# Altium footprint library MJ-2506.PcbLib: 1 footprints
Each footprint in its own frame and in the unit in brackets; x right, y up, seen from the top. Pads: shape width x height; smd on the part's side, far side on the other; paste and mask are expansions set on the pad; w line width, h text height; cw(c..) or ccw(c..) is an arc to the next point about the centre after c.
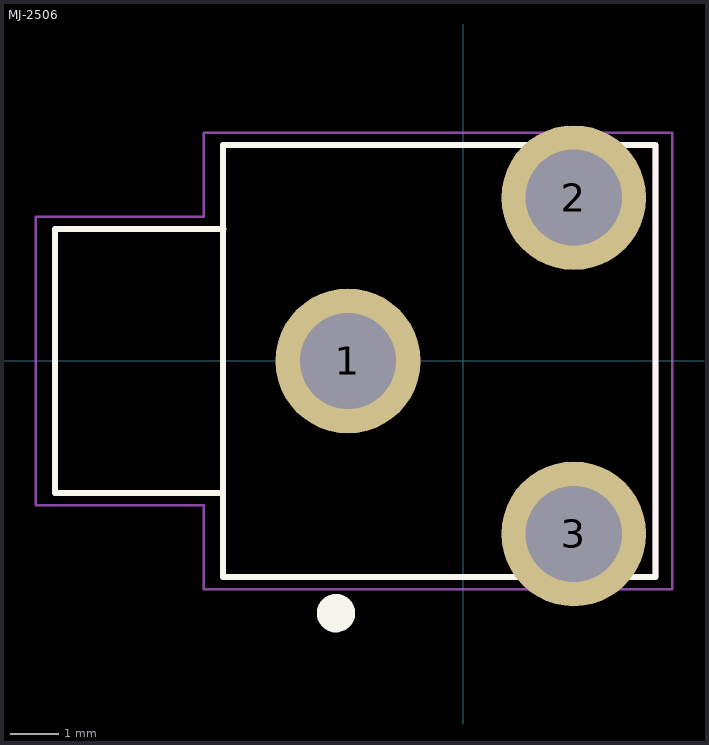
[diagram p0: the footprint, top view; thin cyan lines are the x and y axes]

## MJ-2506 [mm] "2.5mm Audio Jack - Mono"
pads (3):
  round 3.016 hole 2: 1(-2.4,0) 2(2.3,3.4) 3(2.3,-3.6)
Top Overlay:
  circle w0.4: c-2.65,-5.25 r0.2
  lines w0.127: -4.99,2.75 -8.5,2.75 -8.5,-2.75 -5,-2.75 ; -5,-2.75 -5,-4.5 4,-4.5 4,4.5 -5,4.5 -5,-2.75
Mechanical 1:
  lines w0.001: -2.9,-1 -2.9,1 -1.9,1 -1.9,-1 -2.9,-1 ; 1.3,-4.1 3.3,-4.1 3.3,-3.1 1.3,-3.1 1.3,-4.1 ; 1.3,2.9 3.3,2.9 3.3,3.9 1.3,3.9 1.3,2.9
Mechanical 13:
  circle w0.4: c-2.4,0 r0.2
  circle w0.4: c-2.4,0 r0.2
  lines w0.127: -8.5,-2.75 -8.5,2.75 ; -8.5,-2.75 -5,-2.75 ; -8.5,-2.75 -8.5,2.75 ; -8.5,-2.75 -5,-2.75 ; -8.5,2.75 -5,2.75 ; -8.5,2.75 -5,2.75 ; -5,-4.5 -5,-2.75 ; -5,-4.5 4,-4.5 ; -5,-4.5 -5,-2.75 ; -5,-4.5 4,-4.5 ; -5,-2.75 -5,2.75 ; -5,-2.75 -5,2.75 ; -5,2.75 -5,4.5 ; -5,2.75 -5,4.5 ; -5,4.5 4,4.5 ; -5,4.5 4,4.5 ; 4,-4.5 4,4.5 ; 4,-4.5 4,4.5
Mechanical 15:
  lines w0.05: -8.9,-3 -5.4,-3 -5.4,-4.75 4.35,-4.75 4.35,4.75 -5.4,4.75 -5.4,3 -8.9,3 -8.9,-3
3D body: height 8.9, standoff -4.6, extent -8.563,-5.008 3.937,3.992